# EAGLE library part M41T81SM6E (library ST Microelctronics_By_element14_Batch_1)
Serial access real-time clock with alarms
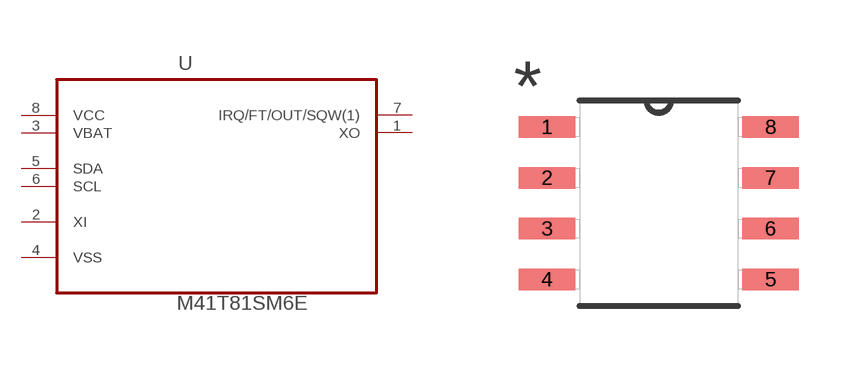
[diagram p187: symbol with the pads of SOIC127P600X175-8N; footprint SOIC127P600X175-8N]

Designator prefix U

## M41T81SM6E (MPN: M41T81SM6E; OC_FARNELL: 1224442; OC_NEWARK: 56P9326; PACKAGE: SOIC-8; SUPPLIER: STMICROELECTRONICS)  [SOIC127P600X175-8N]
1  XO  out
2  XI  in
3  VBAT  pwr
4  VSS  pas
5  SDA
6  SCL  in
7  IRQ/FT/OUT/SQW(1)  out
8  VCC  pwr

## Footprint SOIC127P600X175-8N (pad centres in mm)
smd 1.422 x 0.533: 1 -2.794,1.905; 2 -2.794,0.635; 3 -2.794,-0.635; 4 -2.794,-1.905; 5 2.794,-1.905; 6 2.794,-0.635; 7 2.794,0.635; 8 2.794,1.905